# EAGLE library part BLUETOOTH_MATE (library Dek)
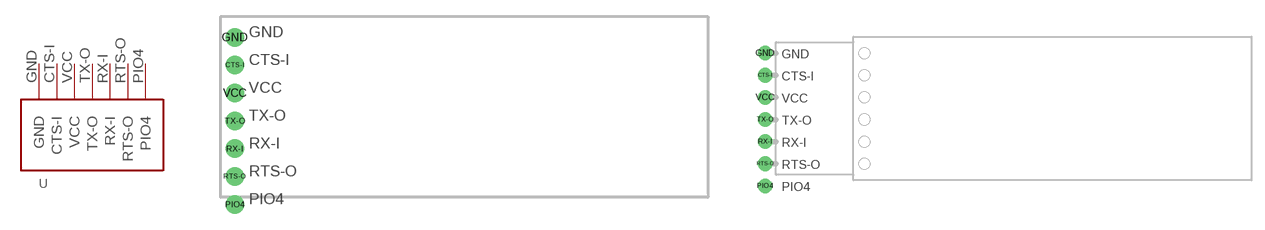
[diagram p2: symbol with the pads of BLUETOOTH_MATE; footprints BLUETOOTH_MATE, BLUETOOTH_MATE_90FEMALE]

Designator prefix -

## BLUETOOTH_MATEMALE  [BLUETOOTH_MATE]
CTS-I  CTS-I
GND  GND  pwr
PIO4  PIO4
RTS-O  RTS-O
RX-I  RX-I  in
TX-O  TX-O  out
VCC  VCC  pwr

## BLUETOOTH_MATE90FEMALE  [BLUETOOTH_MATE_90FEMALE]
Pads as for BLUETOOTH_MATE

## Footprint BLUETOOTH_MATE (pad centres in mm)
drill 0.8 pad 1.676 round: CTS-I 0,10.16; GND 0,12.7; PIO4 0,-2.54; RTS-O 0,0; RX-I 0,2.54; TX-O 0,5.08; VCC 0,7.62

## Footprint BLUETOOTH_MATE_90FEMALE (pad centres in mm)
drill 0.8 pad 1.676 round: CTS-I 0,10.16; GND 0,12.7; PIO4 0,-2.54; RTS-O 0,0; RX-I 0,2.54; TX-O 0,5.08; VCC 0,7.62